# Altium footprint library LedHolder.PcbLib: 1 footprints
Each footprint in its own frame and in the unit in brackets; x right, y up, seen from the top. Pads: shape width x height; smd on the part's side, far side on the other; paste and mask are expansions set on the pad; w line width, h text height; cw(c..) or ccw(c..) is an arc to the next point about the centre after c.
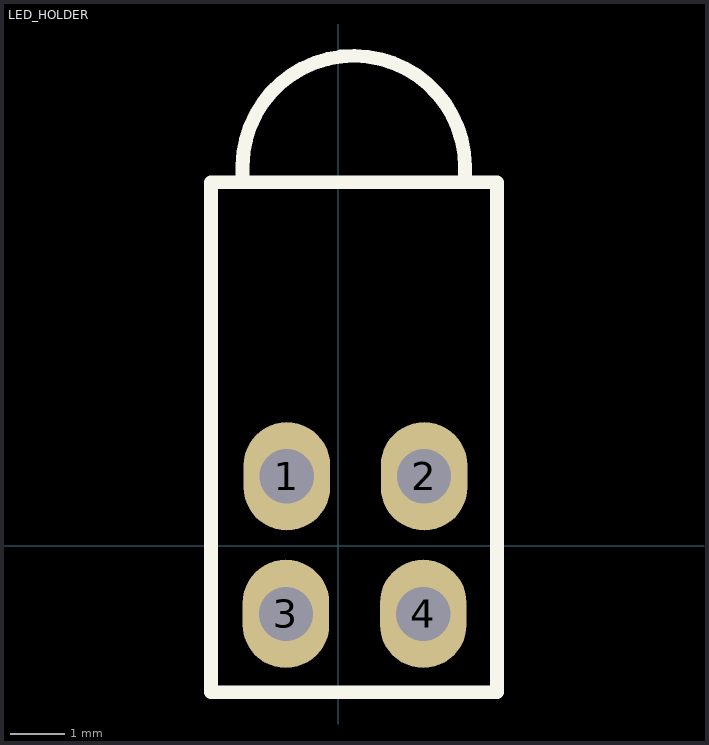
[diagram p0: the footprint, top view; thin cyan lines are the x and y axes]

## LED_HOLDER [mm]
pads (4):
  oval 1.6x2 hole 1: 1(-0.948,1.286) 2(1.588,1.286) 3(-0.965,-1.254) 4(1.571,-1.254)
Top Overlay:
  lines w0.254: -1.767,6.827 -1.767,7.02 cw(c0.288,6.995) 2.343,6.999 2.343,6.821 ; -2.348,-2.7 0.654,-2.7 2.933,-2.7 2.933,6.714 -2.348,6.714 -2.348,-1.757 -2.348,-2.7
3D body "DUAL LED HOUSING.SLDPRT": height 9.65, standoff -3.68, extent -1.849,-1.562 2.471,9.168